# Altium schematic symbol library GH125-S02DCA-001_GH125-S02DCA-00.schdoc.SCHLIB: 1 symbol
Pins are listed as number, name and electrical type; pins without a type are passive.

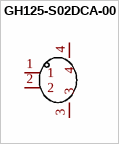
[diagram p0: symbol GH125-S02DCA-00]

## GH125-S02DCA-00
designator X??  (value not drawn)
Add into BOM: yes; Pins Structure: 1x2P; Pitch: 1.25mm; Number of PINs Per Row: 2; Current Rating (Max): 1A; Symbol: GH125-S02DCA-00; Device: GH125-S02DCA-00; Supplier: LCSC; Supplier Part: C2886765; Manufacturer Part: GH125-S02DCA-00; JLCPCB Part Class: Extended Part; Supplier Footprint: SMD,P=1.25mm; Datasheet: https://atta.szlcsc.com/upload/public/pdf/source/20210818/CD11791E5ED3EDF45A7009E9C8A2BD4C.pdf; Convert to PCB: yes; Row Spacing: -; Number of Pins: 2P; Number of Rows: 1; Reference Series: -
footprint CONN-SMD_2P-P1.25_JUSHUO_GH125-S02DCA-00
pins: 1, 2, 3, 4